# EAGLE library part 750311620 (library Wurth Electronics Midcom Inc V1-0)
Package Style: EFD20 SMD 11W Mounting: SMD Pins: 10 pins Bobbin: 070-4290 Windings Primary: 30 - 190VDC, 53k - 120kHz Aux: 19.0VDC, 5.0mADC Secondary: 25.0VDC, 450mADC Best pinouts for production vary per application. Please contact Wurth Electronics Midcom, Inc. for assistance with your custom design. Datasheet: 750311620 <http://www.we-online.com/web/en/index.php/show/media/passive_components_-_custom_magnetics/pdf_doc_files/spec_sheets/7503/750311620.pdf> Website: Wurth Electronics Midcom <http://www.we-online.com/midcom> Contact us Wurth Electronics Midcom, Inc. 121 Airport Dr. Watertown, SD 57201 Phone: (605) 886-4385 Fax: (605) 886-4486 E-Mail: midcom@we-online.com
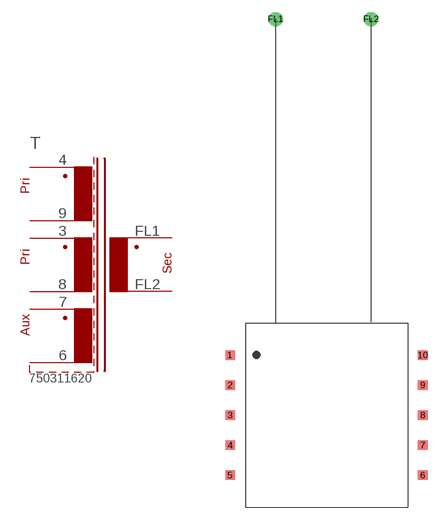
[diagram p65: symbol with the pads of 750311620; footprint 750311620]

Designator prefix T

## 750311620  [750311620]
3  3  pas
4  1  pas
6  6  pas
7  5  pas
8  4  pas
9  2  pas
FL1  7  pas
FL2  8  pas

## Footprint 750311620 (pad centres in mm)
Package Style: EFD20 SMD 11W Mounting: SMD with flying leads Pins: 10
smd 1.219 x 1.194: 1 -12.052,7.518; 2 -12.052,3.759; 3 -12.052,0; 4 -12.052,-3.759; 5 -12.052,-7.518; 6 12.052,-7.518; 7 12.052,-3.759; 8 12.052,0; 9 12.052,3.759; 10 12.052,7.518
drill 1.194 round: FL1 -6.35,49.53; FL2 5.588,49.53